# Altium schematic symbol library Schem_lib.SchLib: 221 symbols (part 2 of 2)
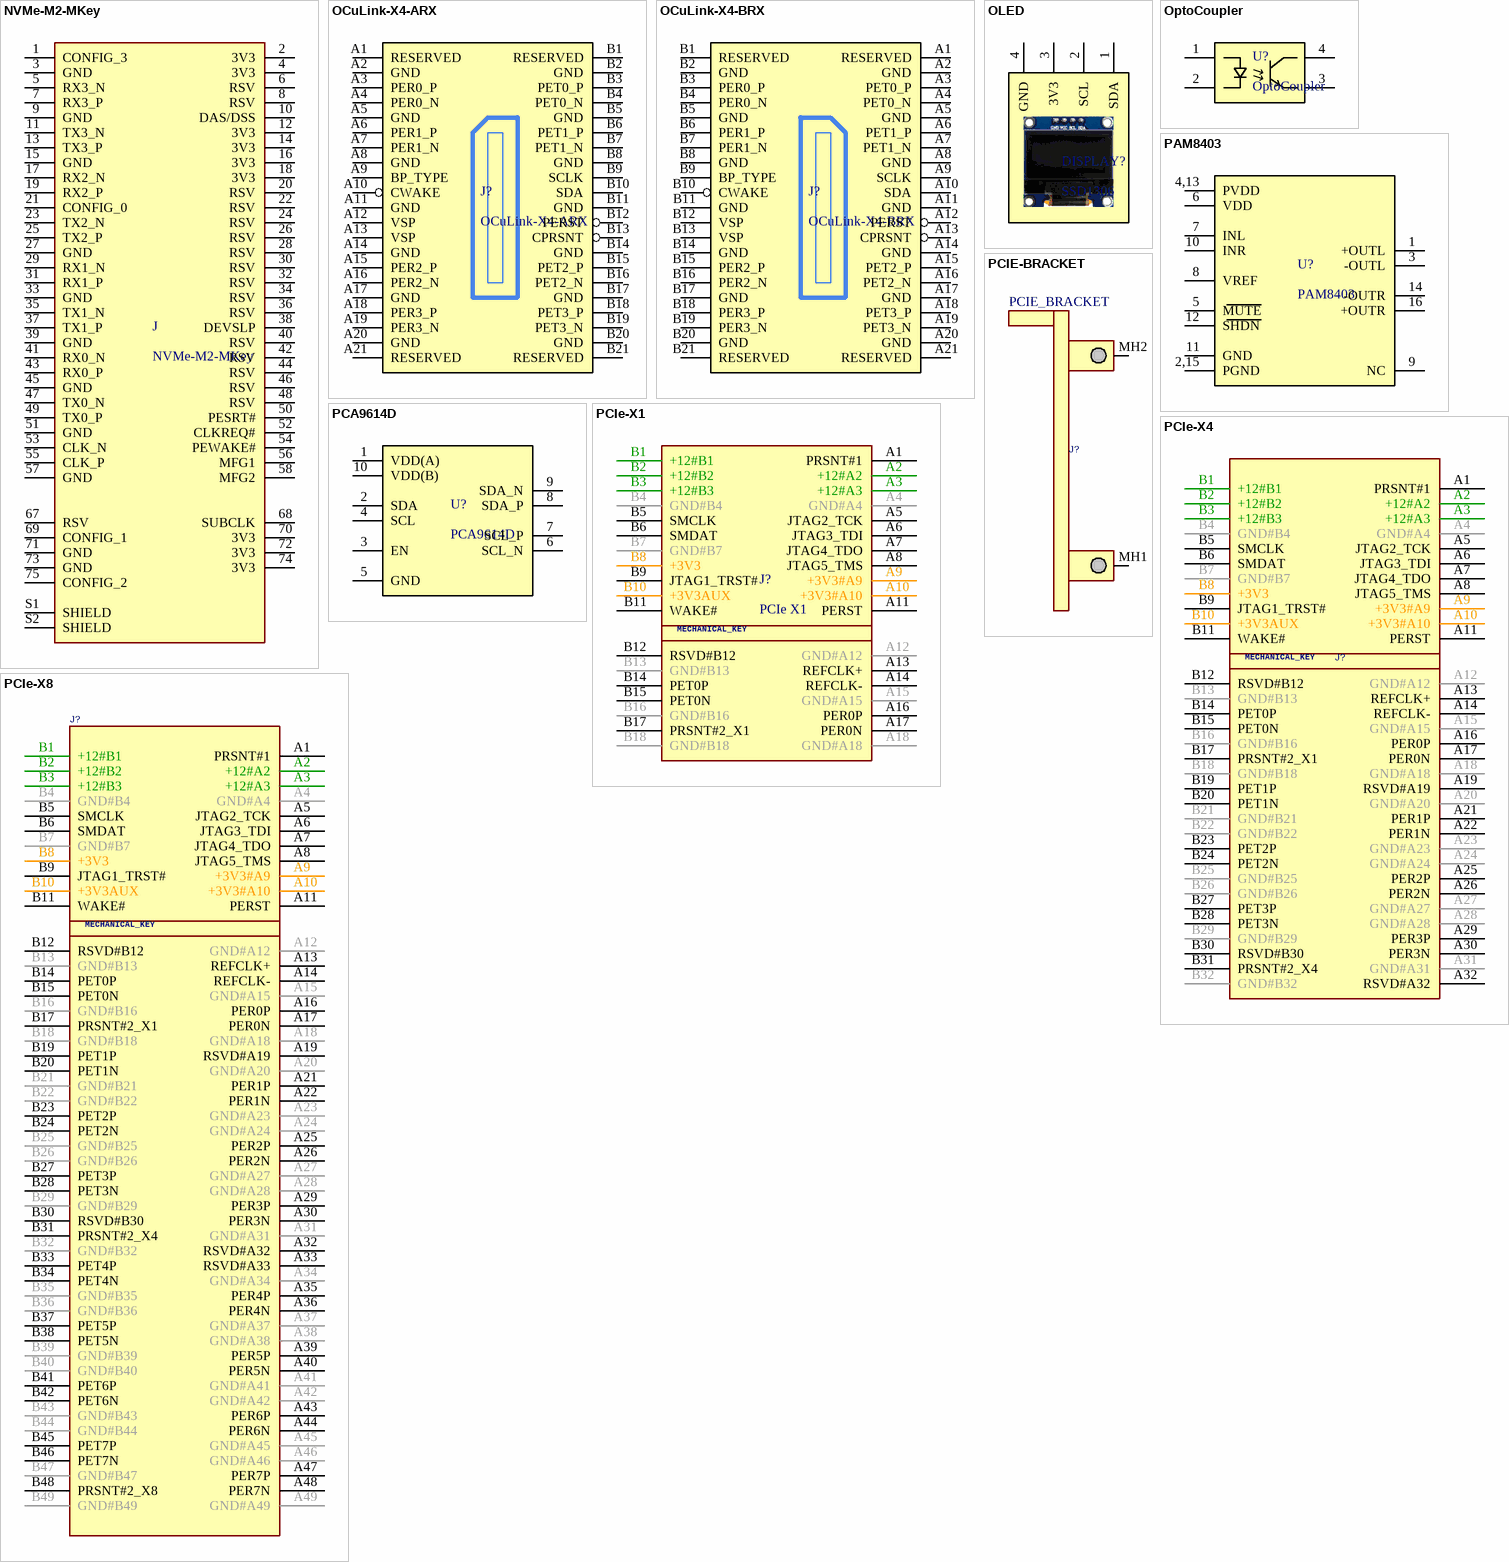
[diagram p13: symbols NVMe-M2-MKey to PCIe-X8]

## OptoCoupler
designator U?
footprint DIP4
pins: 1 (oe), 2 (oe), 3 (oe), 4 (oe)

## PAM8403
designator U?
3W Stereo Class D Amplifier
footprint SO-16
pins: 1 +OUTL, 2,15 PGND, 3 -OUTL, 4,13 PVDD, 5 MUTE, 6 VDD, 7 INL, 8 VREF, 9 NC, 10 INR, 11 GND, 12 SHDN, 14 -OUTR, 16 +OUTR

## PCA9614D
designator U?
2-Channel multipoint Fast-mode Plus differential I2C-bus
footprint MSOP-10
pins: 1 VDD(A), 2 SDA, 3 EN, 4 SCL, 5 GND, 6 SCL_N, 7 SCL_P, 8 SDA_P, 9 SDA_N, 10 VDD(B)

## PCIE-BRACKET
designator J?, comment PCIE_BRACKET
PC IO BOARD BRACKET; VALUE: PCIE_BRACKET
footprint PCIE_BRACKET (PC IO BOARD BRACKET)
footprint PCIE_BRACKET_LP (PC IO BOARD BRACKET)
pins: MH1, MH2

## PCIe-X1
designator J?, comment PCIe X1
PCI Express X1 (36pin)
footprint PCIe-X1-TH-RIGHT
footprint PCIE-X1-TH
footprint PCIE-X1-EDGE
pins: A1 PRSNT#1, A2 +12#A2, A3 +12#A3, A4 GND#A4, A5 JTAG2_TCK, A6 JTAG3_TDI, A7 JTAG4_TDO, A8 JTAG5_TMS, A9 +3V3#A9, A10 +3V3#A10, A11 PERST, A12 GND#A12, A13 REFCLK+, A14 REFCLK-, A15 GND#A15, A16 PER0P, A17 PER0N, A18 GND#A18, B1 +12#B1, B2 +12#B2, B3 +12#B3, B4 GND#B4, B5 SMCLK, B6 SMDAT, B7 GND#B7, B8 +3V3, B9 JTAG1_TRST#, B10 +3V3AUX, B11 WAKE#, B12 RSVD#B12, B13 GND#B13, B14 PET0P, B15 PET0N, B16 GND#B16, B17 PRSNT#2_X1, B18 GND#B18
text: MECHANICAL_KEY

## PCIe-X4
designator J?
PCI Express X4 (64pin)
footprint PCIE-X4-EDGE (PCIE, 4LANE, EDGE pcb connection)
footprint PCIE-X4-SMT
pins: A1 PRSNT#1, A2 +12#A2, A3 +12#A3, A4 GND#A4, A5 JTAG2_TCK, A6 JTAG3_TDI, A7 JTAG4_TDO, A8 JTAG5_TMS, A9 +3V3#A9, A10 +3V3#A10, A11 PERST, A12 GND#A12, A13 REFCLK+, A14 REFCLK-, A15 GND#A15, A16 PER0P, A17 PER0N, A18 GND#A18, A19 RSVD#A19, A20 GND#A20, A21 PER1P, A22 PER1N, A23 GND#A23, A24 GND#A24, A25 PER2P, A26 PER2N, A27 GND#A27, A28 GND#A28, A29 PER3P, A30 PER3N, A31 GND#A31, A32 RSVD#A32, B1 +12#B1, B2 +12#B2, B3 +12#B3, B4 GND#B4, B5 SMCLK, B6 SMDAT, B7 GND#B7, B8 +3V3, B9 JTAG1_TRST#, B10 +3V3AUX, B11 WAKE#, B12 RSVD#B12, B13 GND#B13, B14 PET0P, B15 PET0N, B16 GND#B16, B17 PRSNT#2_X1, B18 GND#B18, B19 PET1P, B20 PET1N, B21 GND#B21, B22 GND#B22, B23 PET2P, B24 PET2N, B25 GND#B25, B26 GND#B26, B27 PET3P, B28 PET3N, B29 GND#B29, B30 RSVD#B30, B31 PRSNT#2_X4, B32 GND#B32
text: MECHANICAL_KEY

## PCIe-X8
designator J?
PCI Express X8 (98pin)
footprint PCIE-X8-EDGE (PCIE, 8LANE, EDGE pcb connections)
footprint PCIE-X8-SMT
pins: A1 PRSNT#1, A2 +12#A2, A3 +12#A3, A4 GND#A4, A5 JTAG2_TCK, A6 JTAG3_TDI, A7 JTAG4_TDO, A8 JTAG5_TMS, A9 +3V3#A9, A10 +3V3#A10, A11 PERST, A12 GND#A12, A13 REFCLK+, A14 REFCLK-, A15 GND#A15, A16 PER0P, A17 PER0N, A18 GND#A18, A19 RSVD#A19, A20 GND#A20, A21 PER1P, A22 PER1N, A23 GND#A23, A24 GND#A24, A25 PER2P, A26 PER2N, A27 GND#A27, A28 GND#A28, A29 PER3P, A30 PER3N, A31 GND#A31, A32 RSVD#A32, A33 RSVD#A33, A34 GND#A34, A35 PER4P, A36 PER4N, A37 GND#A37, A38 GND#A38, A39 PER5P, A40 PER5N, A41 GND#A41, A42 GND#A42, A43 PER6P, A44 PER6N, A45 GND#A45, A46 GND#A46, A47 PER7P, A48 PER7N, A49 GND#A49, B1 +12#B1, B2 +12#B2, B3 +12#B3, B4 GND#B4, B5 SMCLK, B6 SMDAT, B7 GND#B7, B8 +3V3, B9 JTAG1_TRST#, B10 +3V3AUX, B11 WAKE#, B12 RSVD#B12, B13 GND#B13, B14 PET0P, B15 PET0N, B16 GND#B16, B17 PRSNT#2_X1, B18 GND#B18, B19 PET1P, B20 PET1N, B21 GND#B21, B22 GND#B22, B23 PET2P, B24 PET2N, B25 GND#B25, B26 GND#B26, B27 PET3P, B28 PET3N, B29 GND#B29, B30 RSVD#B30, B31 PRSNT#2_X4, B32 GND#B32, B33 PET4P, B34 PET4N, B35 GND#B35, B36 GND#B36, B37 PET5P, B38 PET5N, B39 GND#B39, B40 GND#B40, B41 PET6P, B42 PET6N, B43 GND#B43, B44 GND#B44, B45 PET7P, B46 PET7N, B47 GND#B47, B48 PRSNT#2_X8, B49 GND#B49
text: MECHANICAL_KEY

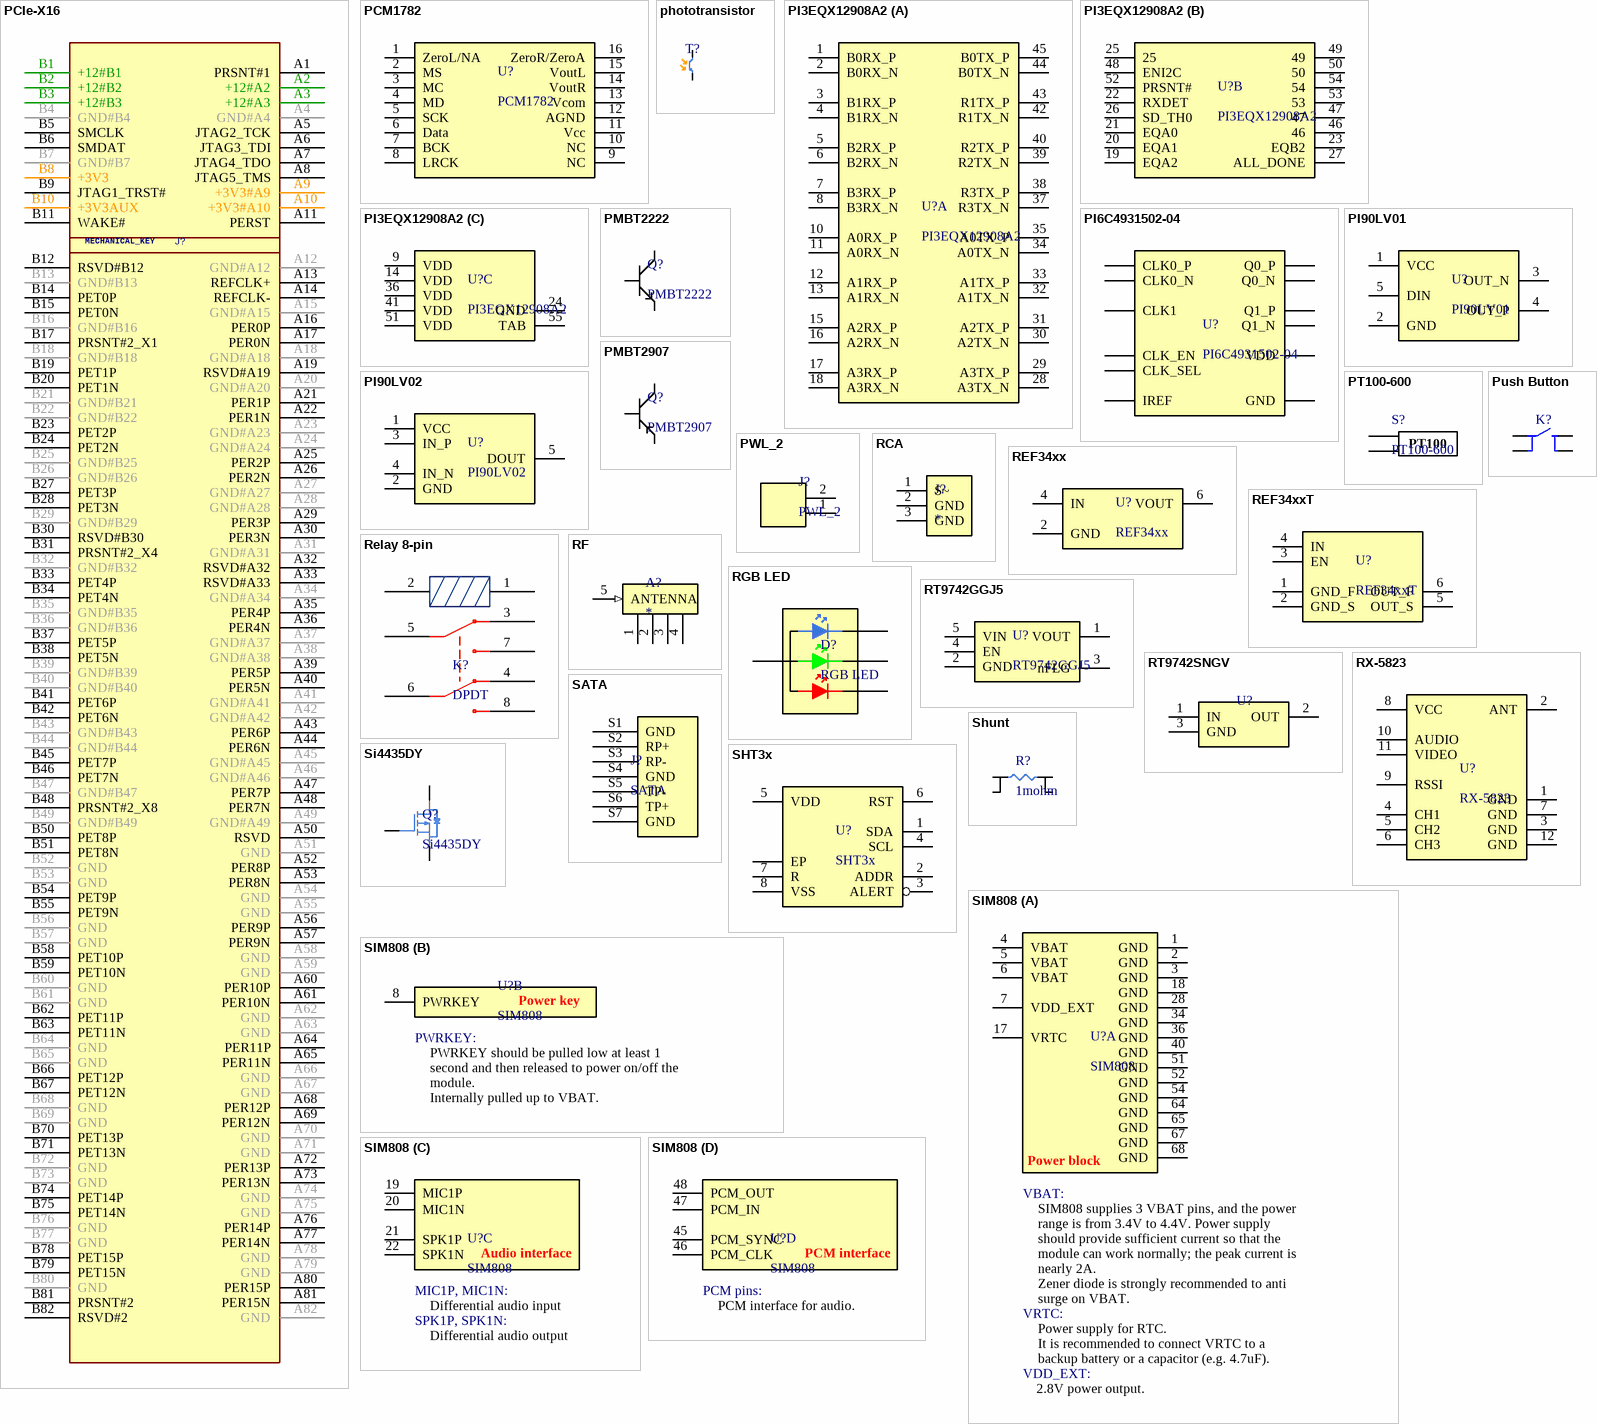
[diagram p8: symbols PCIe-X16 to SIM808]

## PCIe-X16
designator J?
PCI Express X16 (164pin)
footprint PCIE-X16-EDGE (PCIE, 16LANE, EDGE pcb connection)
footprint PCIE-X16-TH
footprint PCIE-X16-TH-RIGHT
footprint PCIE-X16-SMT
pins: A1 PRSNT#1, A2 +12#A2, A3 +12#A3, A4 GND#A4, A5 JTAG2_TCK, A6 JTAG3_TDI, A7 JTAG4_TDO, A8 JTAG5_TMS, A9 +3V3#A9, A10 +3V3#A10, A11 PERST, A12 GND#A12, A13 REFCLK+, A14 REFCLK-, A15 GND#A15, A16 PER0P, A17 PER0N, A18 GND#A18, A19 RSVD#A19, A20 GND#A20, A21 PER1P, A22 PER1N, A23 GND#A23, A24 GND#A24, A25 PER2P, A26 PER2N, A27 GND#A27, A28 GND#A28, A29 PER3P, A30 PER3N, A31 GND#A31, A32 RSVD#A32, A33 RSVD#A33, A34 GND#A34, A35 PER4P, A36 PER4N, A37 GND#A37, A38 GND#A38, A39 PER5P, A40 PER5N, A41 GND#A41, A42 GND#A42, A43 PER6P, A44 PER6N, A45 GND#A45, A46 GND#A46, A47 PER7P, A48 PER7N, A49 GND#A49, A50 RSVD, A51 GND, A52 PER8P, A53 PER8N, A54 GND, A55 GND, A56 PER9P, A57 PER9N, A58 GND, A59 GND, A60 PER10P, A61 PER10N, A62 GND, A63 GND, A64 PER11P, A65 PER11N, A66 GND, A67 GND, A68 PER12P, A69 PER12N, A70 GND, A71 GND, A72 PER13P, A73 PER13N, A74 GND, A75 GND, A76 PER14P, A77 PER14N, A78 GND, A79 GND, A80 PER15P, A81 PER15N, A82 GND, B1 +12#B1, B2 +12#B2, B3 +12#B3, B4 GND#B4, B5 SMCLK, B6 SMDAT, B7 GND#B7, B8 +3V3, B9 JTAG1_TRST#, B10 +3V3AUX, B11 WAKE#, B12 RSVD#B12, B13 GND#B13, B14 PET0P, B15 PET0N, B16 GND#B16, B17 PRSNT#2_X1, B18 GND#B18, B19 PET1P, B20 PET1N, B21 GND#B21, B22 GND#B22, B23 PET2P, B24 PET2N, B25 GND#B25, B26 GND#B26, B27 PET3P, B28 PET3N, B29 GND#B29, B30 RSVD#B30, B31 PRSNT#2_X4, B32 GND#B32, B33 PET4P, B34 PET4N, B35 GND#B35, B36 GND#B36, B37 PET5P, B38 PET5N, B39 GND#B39, B40 GND#B40, B41 PET6P, B42 PET6N, B43 GND#B43, B44 GND#B44, B45 PET7P, B46 PET7N, B47 GND#B47, B48 PRSNT#2_X8, B49 GND#B49, B50 PET8P, B51 PET8N, B52 GND, B53 GND, B54 PET9P, B55 PET9N, B56 GND, B57 GND, B58 PET10P, B59 PET10N, B60 GND, B61 GND, B62 PET11P, B63 PET11N, B64 GND, B65 GND, B66 PET12P, B67 PET12N, B68 GND, B69 GND, B70 PET13P, B71 PET13N, B72 GND, B73 GND, B74 PET14P, B75 PET14N, B76 GND, B77 GND, B78 PET15P, B79 PET15N, B80 GND, B81 PRSNT#2, B82 RSVD#2
text: MECHANICAL_KEY

## PCM1782
designator U?
106dB SNR Stereo DAC (S/W Control)
footprint SSOP-16
pins: 1 ZeroL/NA, 2 MS, 3 MC, 4 MD, 5 SCK, 6 Data, 7 BCK, 8 LRCK, 9 NC, 10 NC, 11 Vcc, 12 AGND, 13 Vcom, 14 VoutR, 15 VoutL, 16 ZeroR/ZeroA

## phototransistor
designator T?
footprint LED0603W
pins: 1 C, 2 E

## PI3EQX12908A2
designator U?
8-Channel PCIe Gen3, 10GbE, SATA3, ReDriver with Linear Equalization
footprint WQFN-54
part A pins: 1 B0RX_P, 2 B0RX_N, 3 B1RX_P, 4 B1RX_N, 5 B2RX_P, 6 B2RX_N, 7 B3RX_P, 8 B3RX_N, 10 A0RX_P, 11 A0RX_N, 12 A1RX_P, 13 A1RX_N, 15 A2RX_P, 16 A2RX_N, 17 A3RX_P, 18 A3RX_N, 28 A3TX_N, 29 A3TX_P, 30 A2TX_N, 31 A2TX_P, 32 A1TX_N, 33 A1TX_P, 34 A0TX_N, 35 A0TX_P, 37 R3TX_N, 38 R3TX_P, 39 R2TX_N, 40 R2TX_P, 42 R1TX_N, 43 R1TX_P, 44 B0TX_N, 45 B0TX_P
part B pins: 19 EQA2, 20 EQA1, 21 EQA0, 22 RXDET, 23 EQB2, 25, 26 SD_TH0, 27 ALL_DONE, 46, 47, 48 ENI2C, 49, 50, 52 PRSNT#, 53, 54
part C pins: 9 VDD, 14 VDD, 24 GND, 36 VDD, 41 VDD, 51 VDD, 55 TAB

## PI6C4931502-04
designator U?
Clock Buffer 1:2 HCSL Buffer
footprint TSSOP-16
pins: 1 CLK_EN, 2 CLK_SEL, 3 CLK0_P, 4 CLK0_N, 5 CLK1, 8 IREF, 9,10,15 VDD, 11 Q1_N, 12 Q1_P, 13 Q0_N, 14 Q0_P, 16 GND

## PI90LV01
designator U?
LVDS High-Speed Differential Line Driver
footprint SOT23-5L
pins: 1 VCC, 2 GND, 3 OUT_N, 4 OUT_P, 5 DIN

## PI90LV02
designator U?
LVDS High-Speed Differential Line Driver
footprint SOT23-5L
pins: 1 VCC, 2 GND, 3 IN_P, 4 IN_N, 5 DOUT

## PMBT2222
designator Q?
NPN Bipolar Transistors - BJT
footprint SOT23
pins: 1 B, 2 E, 3 C

## PMBT2907
designator Q?
PNP Bipolar Transistors - BJT
footprint SOT23
pins: 1 B, 2 E, 3 C

## PT100-600
designator S?
PT100
footprint PT100-600
pins: 1, 2

## Push Button
designator K?  (value not drawn)
Tactile switch
footprint TATCTILE-12x12x15
footprint TATCTILE-12x12x3.5
pins: 1, 2, 3, 4

## PWL_2
designator J?
footprint PWL_2 (Connector; Header; 2 Position)
pins: 1, 2

## RCA
designator J?
footprint RCA
pins: 1 S~, 2 GND, 3 GND (oe)

## REF34xx
designator U?
Voltage References low-drift, low-power
footprint SOT23-6L
pins: 2 GND, 4 IN, 6 VOUT

## REF34xxT
designator U?
Voltage References low-drift, low-power
footprint SOT23-6L
pins: 1 GND_F, 2 GND_S, 3 EN, 4 IN, 5 OUT_S, 6 OUT_F

## Relay 8-pin
designator K?, comment DPDT
footprint Relay 8-pin DPDT
pins: 1 (oe), 2 (oe), 3 (oe), 4 (oe), 5 (oe), 6 (oe), 7 (oe), 8 (oe)

## RF
designator A?
footprint SMA
pins: 1 GND, 2 GND, 3 GND, 4 GND, 5 ANTENNA (in)

## RGB LED
designator D?
footprint 1204-RGB
footprint 1204-RGB-Right
pins: 1 G, 2 R, 3 B, 4 A

## RT9742GGJ5
designator U?
IC PWR SWTCH N-CHAN
footprint SOT23-5L
pins: 1 VOUT, 2 GND, 3 nFLG, 4 EN, 5 VIN

## RT9742SNGV
designator U?  (value not drawn)
IC PWR SWITCH N-CHAN
footprint SOT23
pins: 1 IN, 2 OUT, 3 GND

## RX-5823
designator U?
5.8GHz AV Reciever
footprint RX-5823
pins: 1 GND (oe), 2 ANT (oe), 3 GND (oe), 4 CH1 (oe), 5 CH2 (oe), 6 CH3 (oe), 7 GND (oe), 8 VCC (oe), 9 RSSI (oe), 10 AUDIO (oe), 11 VIDEO (oe), 12 GND (oe)

## SATA
designator J?
footprint SATA
pins: S1 GND, S2 RP+, S3 RP-, S4 GND, S5 TP-, S6 TP+, S7 GND

## SHT3x
designator U?
Board Mount Humidity Sensors RH Accuracy +/- 2% Digital
footprint SHT3x-DIS
pins: 1 SDA, 2 ADDR, 3 ALERT, 4 SCL, 5 VDD, 6 RST, 7 R, 8 VSS, EP

## Shunt
designator R?, comment 1mohm
VALUE: 1mohm
footprint 2512; pin to pad 3>2 4>1
footprint 0508R; pin to pad 3>2 4>1
footprint 3637R
pins: 1, 2, 3, 4

## Si4435DY
designator Q?
MOSFT P-Channel 30V 8A 35mOhm
footprint SOIC-8
pins: 1,2,3 S, 4 G, 5,6,7,8 D

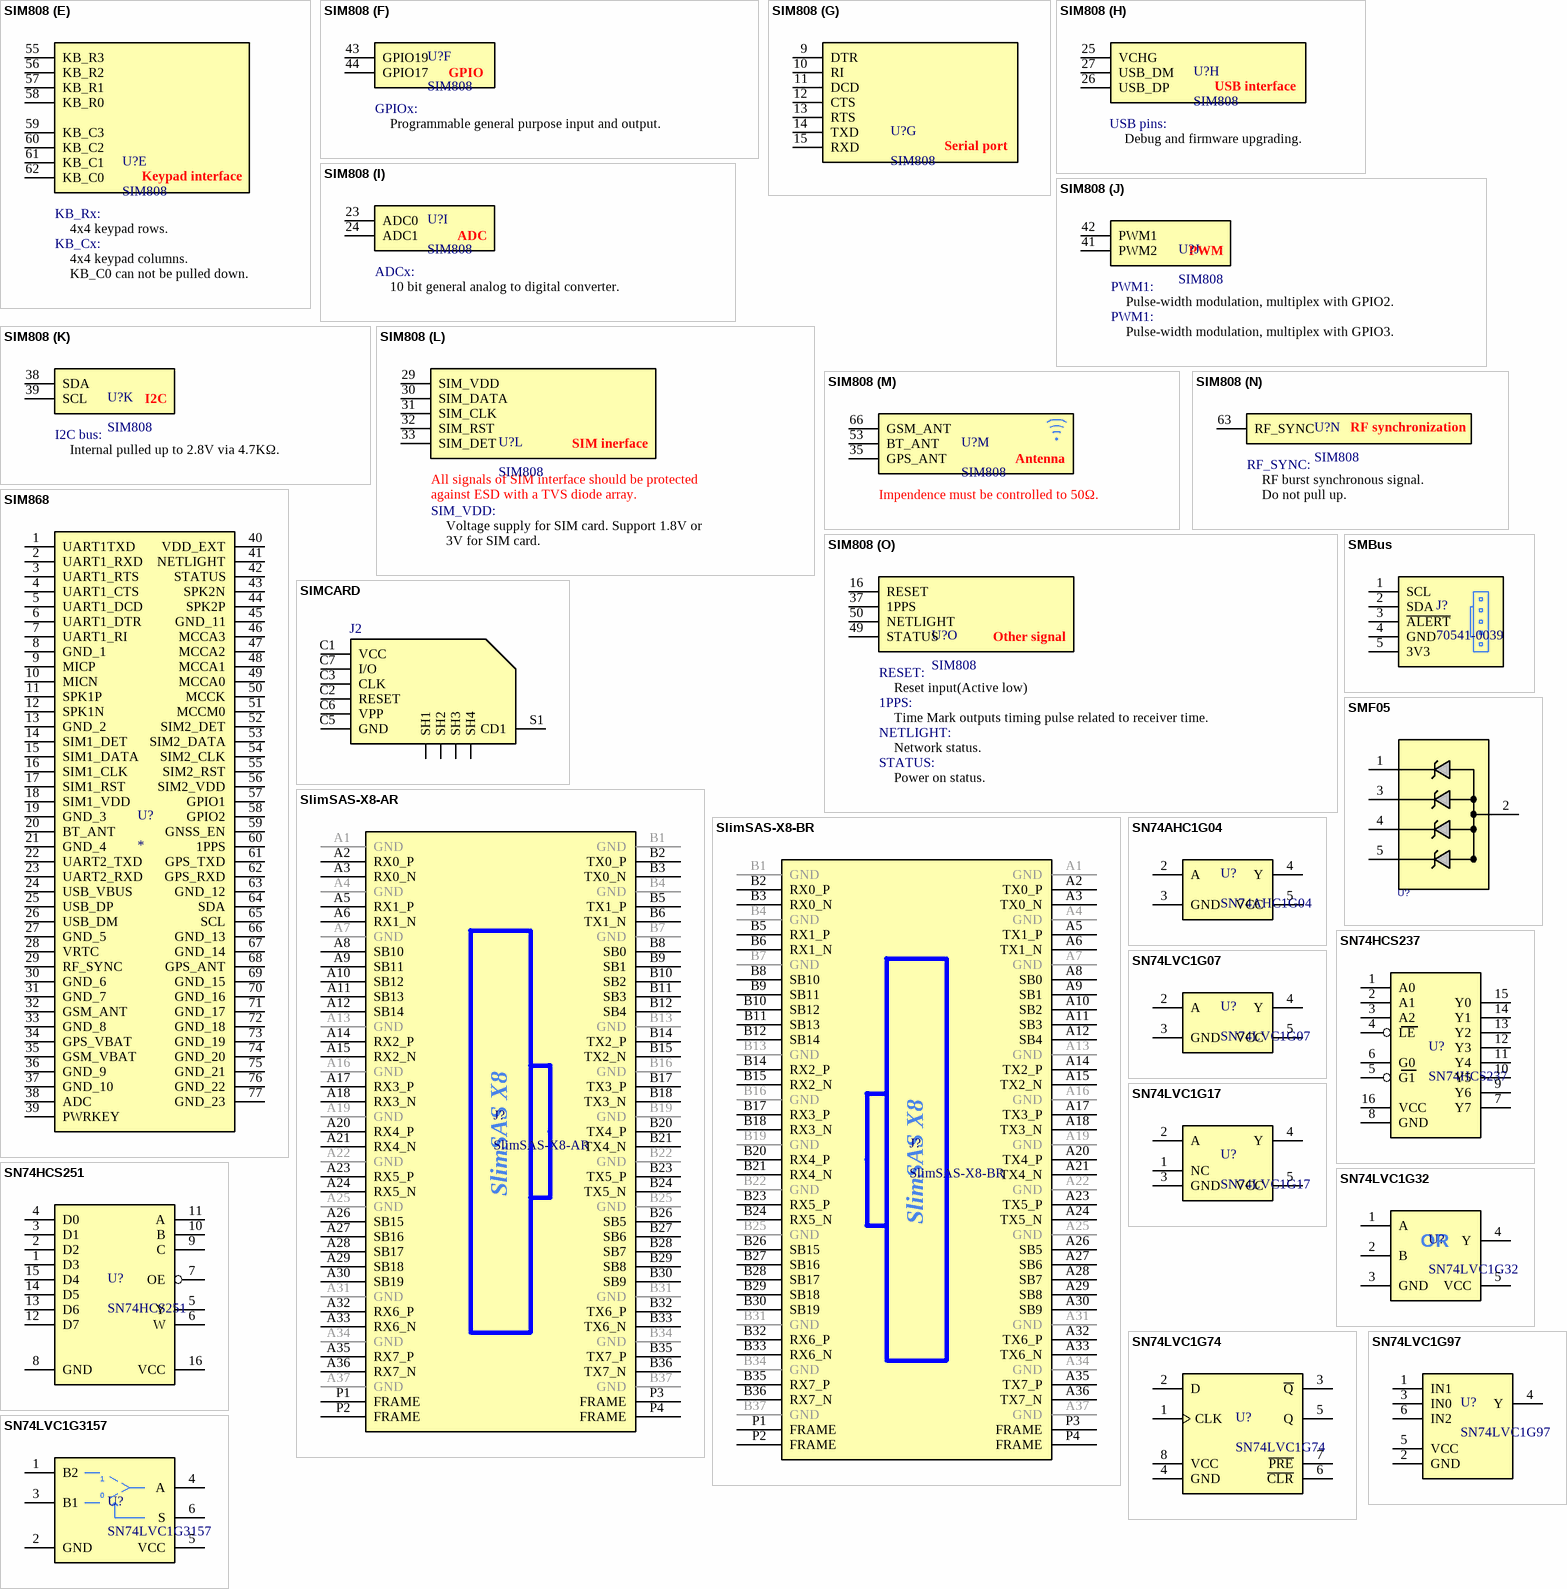
[diagram p9: symbols SIM808 to SN74LVC1G3157]

## SIM808
designator U?
SIM808 Modem
footprint SIM808
part A pins: 1 GND, 2 GND, 3 GND, 4 VBAT, 5 VBAT, 6 VBAT, 7 VDD_EXT, 17 VRTC, 18 GND, 28 GND, 34 GND, 36 GND, 40 GND, 51 GND, 52 GND, 54 GND, 64 GND, 65 GND, 67 GND, 68 GND
part B pins: 8 PWRKEY
part C pins: 19 MIC1P, 20 MIC1N, 21 SPK1P, 22 SPK1N
part D pins: 45 PCM_SYNC, 46 PCM_CLK, 47 PCM_IN, 48 PCM_OUT
part E pins: 55 KB_R3, 56 KB_R2, 57 KB_R1, 58 KB_R0, 59 KB_C3, 60 KB_C2, 61 KB_C1, 62 KB_C0
part F pins: 43 GPIO19, 44 GPIO17
part G pins: 9 DTR, 10 RI, 11 DCD, 12 CTS, 13 RTS, 14 TXD, 15 RXD
part H pins: 25 VCHG, 26 USB_DP, 27 USB_DM
part I pins: 23 ADC0, 24 ADC1
part J pins: 41 PWM2, 42 PWM1
part K pins: 38 SDA, 39 SCL
part L pins: 29 SIM_VDD, 30 SIM_DATA, 31 SIM_CLK, 32 SIM_RST, 33 SIM_DET
part M pins: 35 GPS_ANT, 53 BT_ANT, 66 GSM_ANT
part N pins: 63 RF_SYNC
part O pins: 16 RESET, 37 1PPS, 49 STATUS, 50 NETLIGHT
part A text: Power block; VBAT:; SIM808 supplies 3 VBAT pins, and the power; range is from 3.4V to 4.4V. Power supply; should provide sufficient current so that the; module can work normally; the peak current is; nearly 2A.; Zener diode is strongly recommended to anti; surge on VBAT.; VRTC:; Power supply for RTC.; It is recommended to connect VRTC to a; backup battery or a capacitor (e.g. 4.7uF).; VDD_EXT:; 2.8V power output.
part B text: Power key; PWRKEY:; PWRKEY should be pulled low at least 1; second and then released to power on/off the; module.; Internally pulled up to VBAT.
part C text: Audio interface; MIC1P, MIC1N:; Differential audio input; SPK1P, SPK1N:; Differential audio output
part D text: PCM interface; PCM pins:; PCM interface for audio.
part E text: Keypad interface; KB_Rx:; 4x4 keypad rows.; KB_Cx:; 4x4 keypad columns.; KB_C0 can not be pulled down.
part F text: GPIO; GPIOx:; Programmable general purpose input and output.
part G text: Serial port
part H text: USB interface; USB pins:; Debug and firmware upgrading.
part I text: ADC; ADCx:; 10 bit general analog to digital converter.
part J text: PWM; PWM1:; Pulse-width modulation, multiplex with GPIO2.; Pulse-width modulation, multiplex with GPIO3.
part K text: I2C; I2C bus:; Internal pulled up to 2.8V via 4.7KΩ.
part L text: SIM inerface; All signals of SIM interface should be protected; against ESD with a TVS diode array.; SIM_VDD:; Voltage supply for SIM card. Support 1.8V or; 3V for SIM card.
part M text: Antenna; Impendence must be controlled to 50Ω.
part N text: RF synchronization; RF_SYNC:; RF burst synchronous signal.; Do not pull up.
part O text: Other signal; RESET:; Reset input(Active low); 1PPS:; Time Mark outputs timing pulse related to receiver time.; NETLIGHT:; Network status.; STATUS:; Power on status.

## SIM868
designator U?
footprint SIM868
pins: 1 UART1TXD, 2 UART1_RXD, 3 UART1_RTS, 4 UART1_CTS, 5 UART1_DCD, 6 UART1_DTR, 7 UART1_RI, 8 GND_1, 9 MICP, 10 MICN, 11 SPK1P, 12 SPK1N, 13 GND_2, 14 SIM1_DET, 15 SIM1_DATA, 16 SIM1_CLK, 17 SIM1_RST, 18 SIM1_VDD, 19 GND_3, 20 BT_ANT, 21 GND_4, 22 UART2_TXD, 23 UART2_RXD, 24 USB_VBUS, 25 USB_DP, 26 USB_DM, 27 GND_5, 28 VRTC, 29 RF_SYNC, 30 GND_6, 31 GND_7, 32 GSM_ANT, 33 GND_8, 34 GPS_VBAT, 35 GSM_VBAT, 36 GND_9, 37 GND_10, 38 ADC, 39 PWRKEY, 40 VDD_EXT, 41 NETLIGHT, 42 STATUS, 43 SPK2N, 44 SPK2P, 45 GND_11, 46 MCCA3, 47 MCCA2, 48 MCCA1, 49 MCCA0, 50 MCCK, 51 MCCM0, 52 SIM2_DET, 53 SIM2_DATA, 54 SIM2_CLK, 55 SIM2_RST, 56 SIM2_VDD, 57 GPIO1, 58 GPIO2, 59 GNSS_EN, 60 1PPS, 61 GPS_TXD, 62 GPS_RXD, 63 GND_12, 64 SDA, 65 SCL, 66 GND_13, 67 GND_14, 68 GPS_ANT, 69 GND_15, 70 GND_16, 71 GND_17, 72 GND_18, 73 GND_19, 74 GND_20, 75 GND_21, 76 GND_22, 77 GND_23

## SIMCARD
designator J2  (value not drawn)
SIMCARD SOCKET
footprint SIMCARD_HOLDER
pins: C1 VCC, C2 RESET, C3 CLK, C5 GND, C6 VPP, C7 I/O, S1 CD1, SH1, SH2, SH3, SH4

## SlimSAS-X8-AR
designator J?
SlimSAS X8 A:RX B:TX
footprint SLIMSAS-VT-X8
footprint SLIMSAS-RA-X8
pins: A1 GND, A2 RX0_P, A3 RX0_N, A4 GND, A5 RX1_P, A6 RX1_N, A7 GND, A8 SB10 "Core Logic", A9 SB11 "Core Logic", A10 SB12 "Core Logic", A11 SB13 "Core Logic", A12 SB14 "Core Logic", A13 GND, A14 RX2_P, A15 RX2_N, A16 GND, A17 RX3_P, A18 RX3_N, A19 GND, A20 RX4_P, A21 RX4_N, A22 GND, A23 RX5_P, A24 RX5_N, A25 GND, A26 SB15 "Core Logic", A27 SB16 "Core Logic", A28 SB17 "Core Logic", A29 SB18 "Core Logic", A30 SB19 "Core Logic", A31 GND, A32 RX6_P, A33 RX6_N, A34 GND, A35 RX7_P, A36 RX7_N, A37 GND, B1 GND, B2 TX0_P, B3 TX0_N, B4 GND, B5 TX1_P, B6 TX1_N, B7 GND, B8 SB0 "Core Logic", B9 SB1 "Core Logic", B10 SB2 "Core Logic", B11 SB3 "Core Logic", B12 SB4 "Core Logic", B13 GND, B14 TX2_P, B15 TX2_N, B16 GND, B17 TX3_P, B18 TX3_N, B19 GND, B20 TX4_P, B21 TX4_N, B22 GND, B23 TX5_P, B24 TX5_N, B25 GND, B26 SB5 "Core Logic", B27 SB6 "Core Logic", B28 SB7 "Core Logic", B29 SB8 "Core Logic", B30 SB9 "Core Logic", B31 GND, B32 TX6_P, B33 TX6_N, B34 GND, B35 TX7_P, B36 TX7_N, B37 GND, P1 FRAME, P2 FRAME, P3 FRAME, P4 FRAME
text: SlimSAS X8

## SlimSAS-X8-BR
designator J?
SlimSAS X8 A:TX B:RX
footprint SLIMSAS-VT-X8
footprint SLIMSAS-RA-X8
pins: A1 GND, A2 TX0_P, A3 TX0_N, A4 GND, A5 TX1_P, A6 TX1_N, A7 GND, A8 SB0 "Core Logic", A9 SB1 "Core Logic", A10 SB2 "Core Logic", A11 SB3 "Core Logic", A12 SB4 "Core Logic", A13 GND, A14 TX2_P, A15 TX2_N, A16 GND, A17 TX3_P, A18 TX3_N, A19 GND, A20 TX4_P, A21 TX4_N, A22 GND, A23 TX5_P, A24 TX5_N, A25 GND, A26 SB5 "Core Logic", A27 SB6 "Core Logic", A28 SB7 "Core Logic", A29 SB8 "Core Logic", A30 SB9 "Core Logic", A31 GND, A32 TX6_P, A33 TX6_N, A34 GND, A35 TX7_P, A36 TX7_N, A37 GND, B1 GND, B2 RX0_P, B3 RX0_N, B4 GND, B5 RX1_P, B6 RX1_N, B7 GND, B8 SB10 "Core Logic", B9 SB11 "Core Logic", B10 SB12 "Core Logic", B11 SB13 "Core Logic", B12 SB14 "Core Logic", B13 GND, B14 RX2_P, B15 RX2_N, B16 GND, B17 RX3_P, B18 RX3_N, B19 GND, B20 RX4_P, B21 RX4_N, B22 GND, B23 RX5_P, B24 RX5_N, B25 GND, B26 SB15 "Core Logic", B27 SB16 "Core Logic", B28 SB17 "Core Logic", B29 SB18 "Core Logic", B30 SB19 "Core Logic", B31 GND, B32 RX6_P, B33 RX6_N, B34 GND, B35 RX7_P, B36 RX7_N, B37 GND, P1 FRAME, P2 FRAME, P3 FRAME, P4 FRAME
text: SlimSAS X8

## SMBus
designator J?, comment 70541-0039
Server SMBus header
footprint SMBUS-HEADER (70541-0039)
pins: 1 SCL "Core Logic", 2 SDA "Core Logic", 3 ~{ALERT} "Core Logic", 4 GND "Core Logic", 5 3V3 "Core Logic"

## SMF05
designator U?, comment TVS_SMF05  (value not drawn)
TVS, ESD PROTECT, 4CH, 5VRWM, 15KV; MANF_P#: SMF05; MANF: Semtech; PARAM: 5VRWM, 15KV; VALUE: TVS_SMF05
footprint SOT23-5L
pins: 1, 2, 3, 4, 5

## SN74AHC1G04
designator U?
Single input NOT gate
footprint SOT23-5L
pins: 2 A, 3 GND, 4 Y, 5 VCC

## SN74HCS237
designator U?
High speed CMOS logic 3-to-8 line decoder demultiplexer with address latches
footprint TSSOP-16
footprint SOIC-16
pins: 1 A0, 2 A1, 3 A2, 4 LE, 5 G1, 6 G0, 7 Y7, 8 GND, 9 Y6, 10 Y5, 11 Y4, 12 Y3, 13 Y2, 14 Y1, 15 Y0, 16 VCC

## SN74HCS251
designator U?
8-to-1 Multiplexers with 3-State Outputs and Schmitt Trigger Inputs
footprint SOIC-16
footprint TSSOP-16
pins: 1 D3, 2 D2, 3 D1, 4 D0, 5 Y, 6 W, 7 OE, 8 GND, 9 C, 10 B, 11 A, 12 D7, 13 D6, 14 D5, 15 D4, 16 VCC

## SN74LVC1G07
designator U?
Single 1.65-V to 5.5-V buffer with open-drain outputs
footprint SOT23-5L
pins: 2 A, 3 GND, 4 Y, 5 VCC

## SN74LVC1G17
designator U?
Single schmitt trigger buffer
footprint SOT23-5L
pins: 1 NC, 2 A, 3 GND, 4 Y, 5 VCC

## SN74LVC1G32
designator U?
1-ch, 2-input 1.65-V to 5.5-V 32-mA drive strength OR gate
footprint SOT23-5L
pins: 1 A, 2 B, 3 GND, 4 Y, 5 VCC
text: OR

## SN74LVC1G74
designator U?
Single Positive-Edge-Triggered D-Type Flip-Flop With Clear and Preset
footprint UQFN-8
footprint X2SON-8
footprint SSOP-8
footprint VSSOP-8
pins: 1 CLK "Core Logic", 2 D "Core Logic", 3 ~{Q} "Core Logic", 4 GND "Core Logic", 5 Q "Core Logic", 6 ~{CLR} "Core Logic", 7 ~{PRE} "Core Logic", 8 VCC "Core Logic"

## SN74LVC1G97
designator U?
Configurable Multiple Function Gates
footprint SOT23-6L
pins: 1 IN1, 2 GND, 3 IN0, 4 Y, 5 VCC, 6 IN2

## SN74LVC1G3157
designator U?
5-V, 2:1 (SPDT), 1-channel general-purpose analog switch
footprint SOT23-6L
pins: 1 B2, 2 GND, 3 B1, 4 A, 5 VCC, 6 S
text: 0

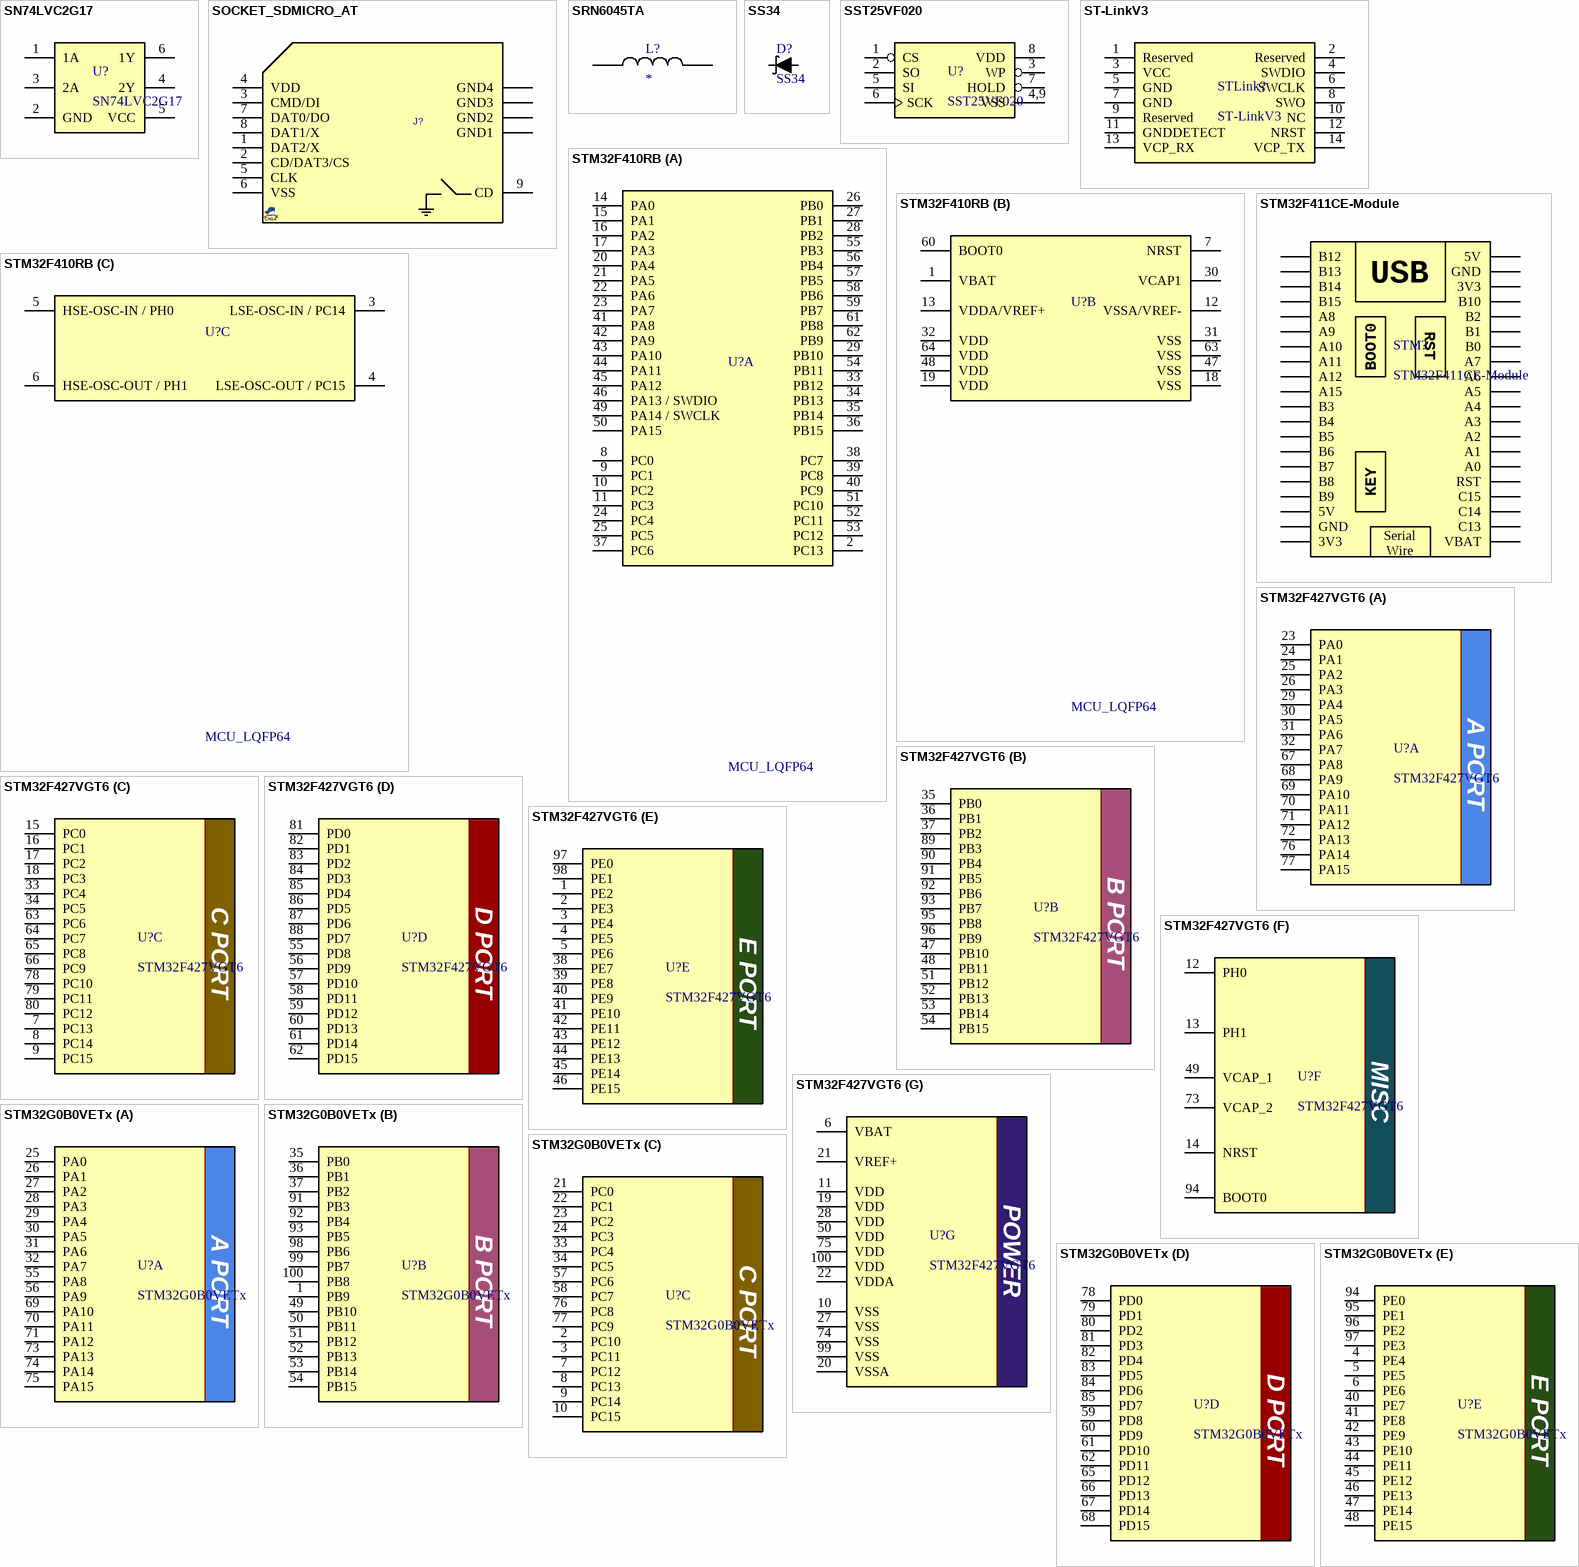
[diagram p10: symbols SN74LVC2G17 to STM32G0B0VETx]

## SN74LVC2G17
designator U?
2-ch, 1.65-V to 5.5-V buffers with Schmitt-Trigger inputs
footprint SOT23-6L
footprint SOT-323
pins: 1 1A, 2 GND, 3 2A, 4 2Y, 5 VCC, 6 1Y

## SOCKET_SDMICRO_AT
designator J?
SD MICRO exist in Iran, Attend 112J-TDAR-R01; PARAM: push-push; MANF: Attend; MANF_P#: 112J-TDAR-R01
footprint SDMICRO_AT (SDMICRO exist on Iran, Attend 112J-TDAR-R01 push-push)
pins: 1 DAT2/X, 2 CD/DAT3/CS, 3 CMD/DI, 4 VDD, 5 CLK, 6 VSS, 7 DAT0/DO, 8 DAT1/X, 9 CD, SH1 GND1, SH2 GND2, SH3 GND3, SH4 GND4

## SRN6045TA
designator L?
Inductor
footprint SRN6045TA
pins: 1, 2

## SS34
designator D?
Schottky Diode
footprint DO-214AC
pins: A (oe), K (oe)

## SST25VF020
designator U?
2Mbit SPI Serial Flash
footprint VSON-8pin; pin to pad 4,9>4+9
pins: 1 CS "Core Logic", 2 SO "Core Logic", 3 WP "Core Logic", 4,9 VSS "Core Logic", 5 SI "Core Logic", 6 SCK "Core Logic", 7 HOLD "Core Logic", 8 VDD "Core Logic"

## ST-LinkV3
designator STLink?
ST-LinkV3 STDC14 IDC
footprint FTSH-107-01-L-DV-K
pins: 1 Reserved, 2 Reserved, 3 VCC, 4 SWDIO, 5 GND, 6 SWCLK, 7 GND, 8 SWO, 9 Reserved, 10 NC, 11 GNDDETECT, 12 NRST, 13 VCP_RX, 14 VCP_TX

## STM32F410RB
designator U?, comment MCU_LQFP64
STM32 Dynamic Efficiency MCU with BAM, High-performance and DSP with FPU, Arm Cortex-M4 MCU with 128 Kbytes of Flash memory, 100 MHz CPU, Art Accelerator
footprint LQFP64
part A pins: 2 PC13, 8 PC0, 9 PC1, 10 PC2, 11 PC3, 14 PA0, 15 PA1, 16 PA2, 17 PA3, 20 PA4, 21 PA5, 22 PA6, 23 PA7, 24 PC4, 25 PC5, 26 PB0, 27 PB1, 28 PB2, 29 PB10, 33 PB12, 34 PB13, 35 PB14, 36 PB15, 37 PC6, 38 PC7, 39 PC8, 40 PC9, 41 PA8, 42 PA9, 43 PA10, 44 PA11, 45 PA12, 46 PA13 / SWDIO, 49 PA14 / SWCLK, 50 PA15, 51 PC10, 52 PC11, 53 PC12, 54 PB11, 55 PB3, 56 PB4, 57 PB5, 58 PB6, 59 PB7, 61 PB8, 62 PB9
part B pins: 1 VBAT, 7 NRST, 12 VSSA/VREF-, 13 VDDA/VREF+, 18 VSS, 19 VDD, 30 VCAP1, 31 VSS, 32 VDD, 47 VSS, 48 VDD, 60 BOOT0, 63 VSS, 64 VDD
part C pins: 3 LSE-OSC-IN / PC14, 4 LSE-OSC-OUT / PC15, 5 HSE-OSC-IN / PH0, 6 HSE-OSC-OUT / PH1

## STM32F411CE-Module
designator STM?
STM32F411CE Black Module
footprint STM32F411CE-MODULE
pins: 1 5V, 2 GND, 3 3V3, 4 B10, 5 B2, 6 B1, 7 B0, 8 A7, 9 A6, 10 A5, 11 A4, 12 A3, 13 A2, 14 A1, 15 A0, 16 RST, 17 C15, 18 C14, 19 C13, 20 VBAT, 21 3V3, 22 GND, 23 5V, 24 B9, 25 B8, 26 B7, 27 B6, 28 B5, 29 B4, 30 B3, 31 A15, 32 A12, 33 A11, 34 A10, 35 A9, 36 A8, 37 B15, 38 B14, 39 B13, 40 B12
text: USB; BOOT0; KEY; Serial / Wire

## STM32F427VGT6
designator U?
High-performance advanced line, Arm Cortex-M4 core with DSP and FPU, 1 Mbyte of Flash memory, 180 MHz CPU, ART Accelerator, Chrom-ART Accelerator, FSMC
footprint LQFP100
part A pins: 23 PA0 "Core Logic", 24 PA1 "Core Logic", 25 PA2 "Core Logic", 26 PA3 "Core Logic", 29 PA4 "Core Logic", 30 PA5 "Core Logic", 31 PA6 "Core Logic", 32 PA7 "Core Logic", 67 PA8 "Core Logic", 68 PA9 "Core Logic", 69 PA10 "Core Logic", 70 PA11 "Core Logic", 71 PA12 "Core Logic", 72 PA13 "Core Logic", 76 PA14 "Core Logic", 77 PA15 "Core Logic"
part B pins: 35 PB0 "Core Logic", 36 PB1 "Core Logic", 37 PB2 "Core Logic", 47 PB10 "Core Logic", 48 PB11 "Core Logic", 51 PB12 "Core Logic", 52 PB13 "Core Logic", 53 PB14 "Core Logic", 54 PB15 "Core Logic", 89 PB3 "Core Logic", 90 PB4 "Core Logic", 91 PB5 "Core Logic", 92 PB6 "Core Logic", 93 PB7 "Core Logic", 95 PB8 "Core Logic", 96 PB9 "Core Logic"
part C pins: 7 PC13 "Core Logic", 8 PC14 "Core Logic", 9 PC15 "Core Logic", 15 PC0 "Core Logic", 16 PC1 "Core Logic", 17 PC2 "Core Logic", 18 PC3 "Core Logic", 33 PC4 "Core Logic", 34 PC5 "Core Logic", 63 PC6 "Core Logic", 64 PC7 "Core Logic", 65 PC8 "Core Logic", 66 PC9 "Core Logic", 78 PC10 "Core Logic", 79 PC11 "Core Logic", 80 PC12 "Core Logic"
part D pins: 55 PD8 "Core Logic", 56 PD9 "Core Logic", 57 PD10 "Core Logic", 58 PD11 "Core Logic", 59 PD12 "Core Logic", 60 PD13 "Core Logic", 61 PD14 "Core Logic", 62 PD15 "Core Logic", 81 PD0 "Core Logic", 82 PD1 "Core Logic", 83 PD2 "Core Logic", 84 PD3 "Core Logic", 85 PD4 "Core Logic", 86 PD5 "Core Logic", 87 PD6 "Core Logic", 88 PD7 "Core Logic"
part E pins: 1 PE2 "Core Logic", 2 PE3 "Core Logic", 3 PE4 "Core Logic", 4 PE5 "Core Logic", 5 PE6 "Core Logic", 38 PE7 "Core Logic", 39 PE8 "Core Logic", 40 PE9 "Core Logic", 41 PE10 "Core Logic", 42 PE11 "Core Logic", 43 PE12 "Core Logic", 44 PE13 "Core Logic", 45 PE14 "Core Logic", 46 PE15 "Core Logic", 97 PE0 "Core Logic", 98 PE1 "Core Logic"
part F pins: 12 PH0 "Core Logic", 13 PH1 "Core Logic", 14 NRST "Core Logic", 49 VCAP_1 "Core Logic", 73 VCAP_2 "Core Logic", 94 BOOT0 "Core Logic"
part G pins: 6 VBAT "Core Logic", 10 VSS "Core Logic", 11 VDD "Core Logic", 19 VDD "Core Logic", 20 VSSA "Core Logic", 21 VREF+ "Core Logic", 22 VDDA "Core Logic", 27 VSS "Core Logic", 28 VDD "Core Logic", 50 VDD "Core Logic", 74 VSS "Core Logic", 75 VDD "Core Logic", 99 VSS "Core Logic", 100 VDD "Core Logic"
part A text: A PORT
part B text: B PORT
part C text: C PORT
part D text: D PORT
part E text: E PORT
part F text: MISC
part G text: POWER

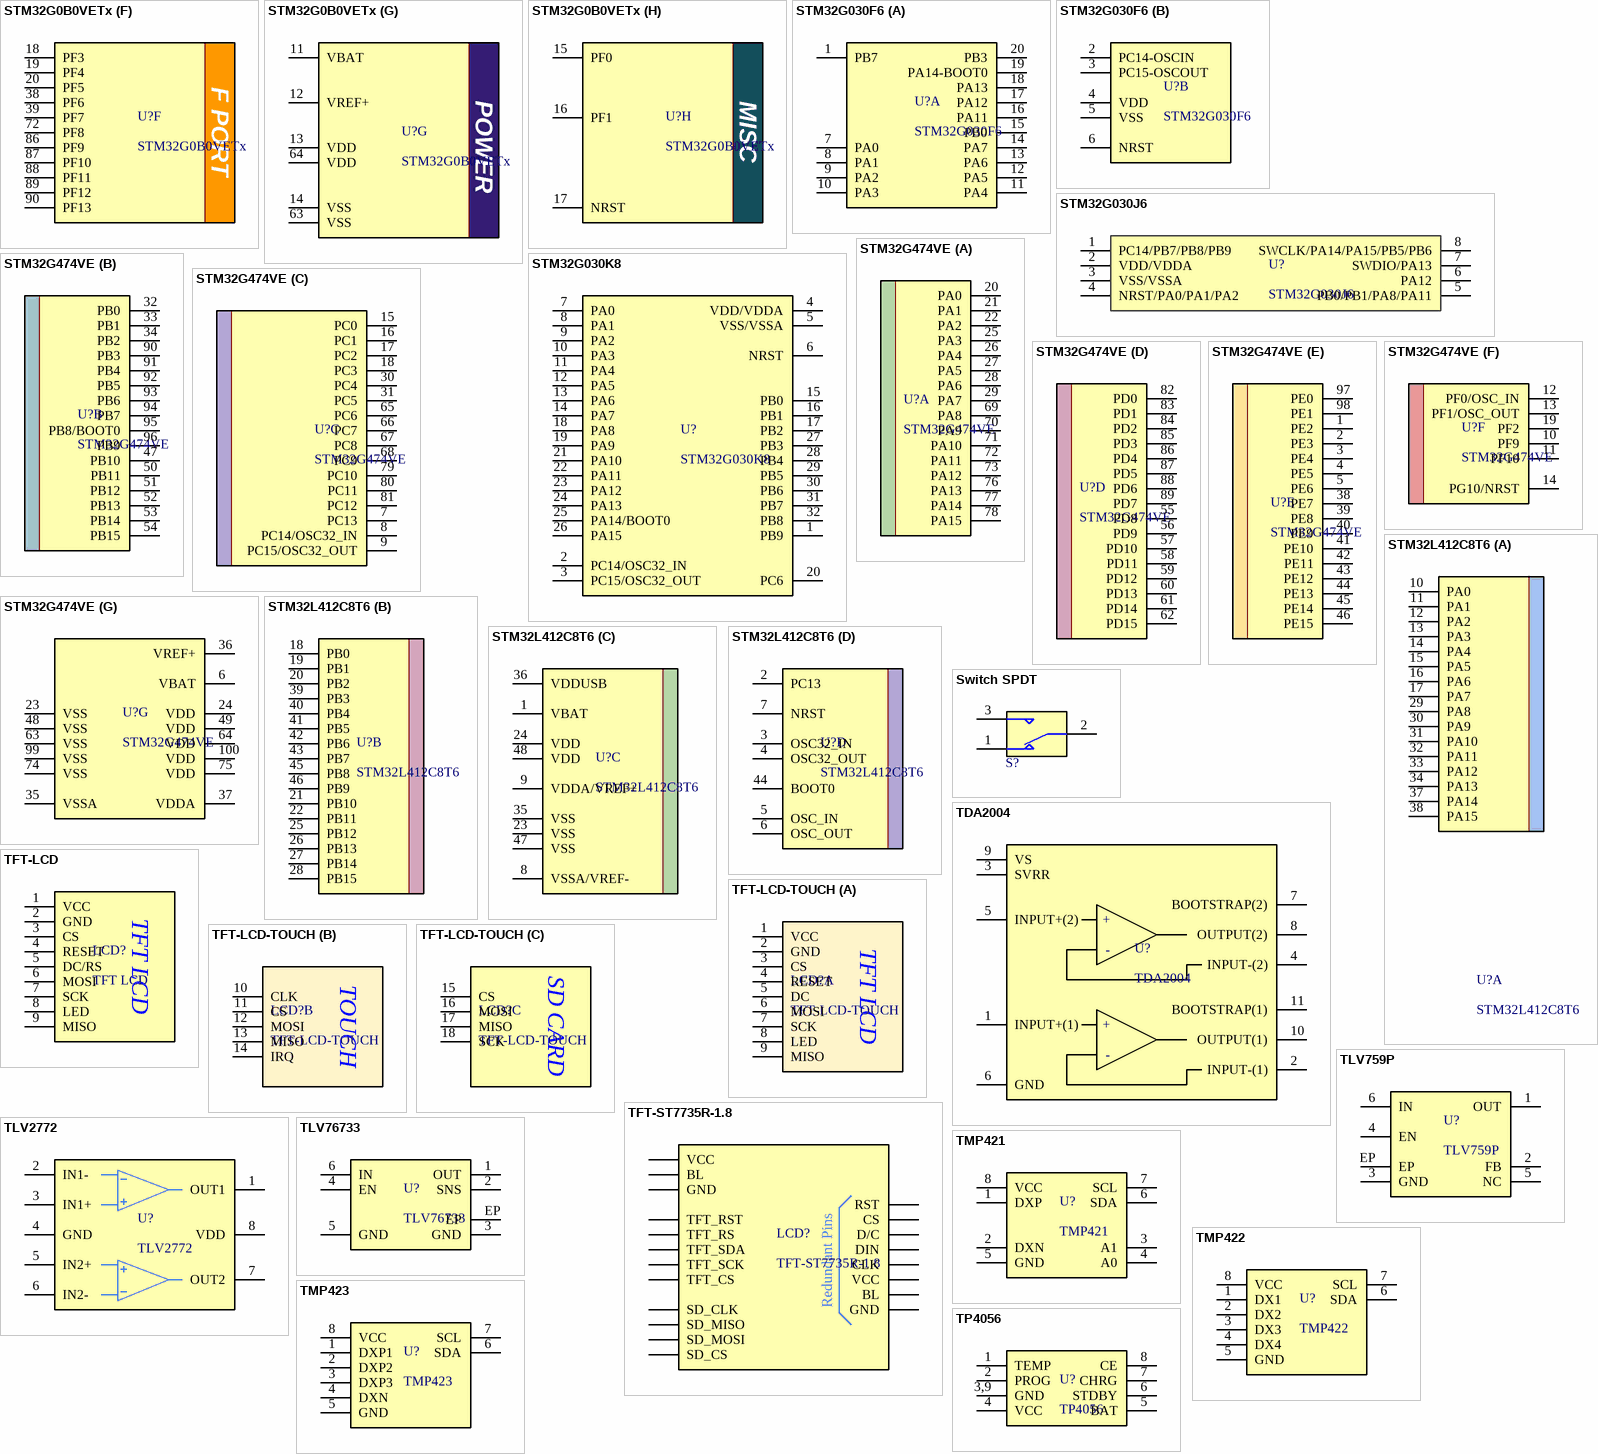
[diagram p11: symbols STM32G0B0VETx to TP4056]

## STM32G0B0VETx
designator U?
Mainstream Value line, Arm Cortex-M0+ 32-bit MCU, up to 512KB Flash, 144KB RAM, 6x USART, timers, ADC, comm. I/Fs, 2-3.6V
footprint LQFP100
part A pins: 25 PA0 "Core Logic", 26 PA1 "Core Logic", 27 PA2 "Core Logic", 28 PA3 "Core Logic", 29 PA4 "Core Logic", 30 PA5 "Core Logic", 31 PA6 "Core Logic", 32 PA7 "Core Logic", 55 PA8 "Core Logic", 56 PA9 "Core Logic", 69 PA10 "Core Logic", 70 PA11 "Core Logic", 71 PA12 "Core Logic", 73 PA13 "Core Logic", 74 PA14 "Core Logic", 75 PA15 "Core Logic"
part B pins: 1 PB9 "Core Logic", 35 PB0 "Core Logic", 36 PB1 "Core Logic", 37 PB2 "Core Logic", 49 PB10 "Core Logic", 50 PB11 "Core Logic", 51 PB12 "Core Logic", 52 PB13 "Core Logic", 53 PB14 "Core Logic", 54 PB15 "Core Logic", 91 PB3 "Core Logic", 92 PB4 "Core Logic", 93 PB5 "Core Logic", 98 PB6 "Core Logic", 99 PB7 "Core Logic", 100 PB8 "Core Logic"
part C pins: 2 PC10 "Core Logic", 3 PC11 "Core Logic", 7 PC12 "Core Logic", 8 PC13 "Core Logic", 9 PC14 "Core Logic", 10 PC15 "Core Logic", 21 PC0 "Core Logic", 22 PC1 "Core Logic", 23 PC2 "Core Logic", 24 PC3 "Core Logic", 33 PC4 "Core Logic", 34 PC5 "Core Logic", 57 PC6 "Core Logic", 58 PC7 "Core Logic", 76 PC8 "Core Logic", 77 PC9 "Core Logic"
part D pins: 59 PD8 "Core Logic", 60 PD9 "Core Logic", 61 PD10 "Core Logic", 62 PD11 "Core Logic", 65 PD12 "Core Logic", 66 PD13 "Core Logic", 67 PD14 "Core Logic", 68 PD15 "Core Logic", 78 PD0 "Core Logic", 79 PD1 "Core Logic", 80 PD2 "Core Logic", 81 PD3 "Core Logic", 82 PD4 "Core Logic", 83 PD5 "Core Logic", 84 PD6 "Core Logic", 85 PD7 "Core Logic"
part E pins: 4 PE4 "Core Logic", 5 PE5 "Core Logic", 6 PE6 "Core Logic", 40 PE7 "Core Logic", 41 PE8 "Core Logic", 42 PE9 "Core Logic", 43 PE10 "Core Logic", 44 PE11 "Core Logic", 45 PE12 "Core Logic", 46 PE13 "Core Logic", 47 PE14 "Core Logic", 48 PE15 "Core Logic", 94 PE0 "Core Logic", 95 PE1 "Core Logic", 96 PE2 "Core Logic", 97 PE3 "Core Logic"
part F pins: 18 PF3 "Core Logic", 19 PF4 "Core Logic", 20 PF5 "Core Logic", 38 PF6 "Core Logic", 39 PF7 "Core Logic", 72 PF8 "Core Logic", 86 PF9 "Core Logic", 87 PF10 "Core Logic", 88 PF11 "Core Logic", 89 PF12 "Core Logic", 90 PF13 "Core Logic"
part G pins: 11 VBAT "Core Logic", 12 VREF+ "Core Logic", 13 VDD "Core Logic", 14 VSS "Core Logic", 63 VSS "Core Logic", 64 VDD "Core Logic"
part H pins: 15 PF0 "Core Logic", 16 PF1 "Core Logic", 17 NRST "Core Logic"
part A text: A PORT
part B text: B PORT
part C text: C PORT
part D text: D PORT
part E text: E PORT
part F text: F PORT
part G text: POWER
part H text: MISC

## STM32G030F6
designator U?
Mainstream Value-Line Arm Cortex-M0+ MCU with 32 Kbytes of Flash memory, 8 Kbytes RAM, 64 MHz CPU, 2x USART, timers, ADC, comm. I/F, 2-3.6V
footprint TSSOP20
part A pins: 1 PB7, 7 PA0, 8 PA1, 9 PA2, 10 PA3, 11 PA4, 12 PA5, 13 PA6, 14 PA7, 15 PB0, 16 PA11, 17 PA12, 18 PA13, 19 PA14-BOOT0, 20 PB3
part B pins: 2 PC14-OSCIN, 3 PC15-OSCOUT, 4 VDD, 5 VSS, 6 NRST

## STM32G030J6
designator U?
Mainstream Value Line Arm Cortex-M0+ MCU with 32 Kbytes of Flash memory, 8 Kbytes RAM, 64 MHz CPU, 2x USART, timers, ADC, comm. I/F, 2-3.6V
footprint SOIC-8
pins: 1 PC14/PB7/PB8/PB9, 2 VDD/VDDA, 3 VSS/VSSA, 4 NRST/PA0/PA1/PA2, 5 PB0/PB1/PA8/PA11, 6 PA12, 7 SWDIO/PA13, 8 SWCLK/PA14/PA15/PB5/PB6

## STM32G030K8
designator U?
Mainstream Value-Line Arm Cortex-M0+ MCU with 64 Kbytes of Flash memory, 8 Kbytes RAM, 64 MHz CPU, 2x USART, timers, ADC, comm. I/F, 2-3.6V
footprint LQFP32
pins: 1 PB9, 2 PC14/OSC32_IN, 3 PC15/OSC32_OUT, 4 VDD/VDDA, 5 VSS/VSSA, 6 NRST, 7 PA0, 8 PA1, 9 PA2, 10 PA3, 11 PA4, 12 PA5, 13 PA6, 14 PA7, 15 PB0, 16 PB1, 17 PB2, 18 PA8, 19 PA9, 20 PC6, 21 PA10, 22 PA11, 23 PA12, 24 PA13, 25 PA14/BOOT0, 26 PA15, 27 PB3, 28 PB4, 29 PB5, 30 PB6, 31 PB7, 32 PB8

## STM32G474VE
designator U?
Mainstream Arm Cortex-M4 MCU 170 MHz with 512 Kbytes of Flash memory, Math Accelerator, HR Timer, High Analog level integration
footprint LQFP100
part A pins: 20 PA0, 21 PA1, 22 PA2, 25 PA3, 26 PA4, 27 PA5, 28 PA6, 29 PA7, 69 PA8, 70 PA9, 71 PA10, 72 PA11, 73 PA12, 76 PA13, 77 PA14, 78 PA15
part B pins: 32 PB0, 33 PB1, 34 PB2, 47 PB10, 50 PB11, 51 PB12, 52 PB13, 53 PB14, 54 PB15, 90 PB3, 91 PB4, 92 PB5, 93 PB6, 94 PB7, 95 PB8/BOOT0, 96 PB9
part C pins: 7 PC13, 8 PC14/OSC32_IN, 9 PC15/OSC32_OUT, 15 PC0, 16 PC1, 17 PC2, 18 PC3, 30 PC4, 31 PC5, 65 PC6, 66 PC7, 67 PC8, 68 PC9, 79 PC10, 80 PC11, 81 PC12
part D pins: 55 PD8, 56 PD9, 57 PD10, 58 PD11, 59 PD12, 60 PD13, 61 PD14, 62 PD15, 82 PD0, 83 PD1, 84 PD2, 85 PD3, 86 PD4, 87 PD5, 88 PD6, 89 PD7
part E pins: 1 PE2, 2 PE3, 3 PE4, 4 PE5, 5 PE6, 38 PE7, 39 PE8, 40 PE9, 41 PE10, 42 PE11, 43 PE12, 44 PE13, 45 PE14, 46 PE15, 97 PE0, 98 PE1
part F pins: 10 PF9, 11 PF10, 12 PF0/OSC_IN, 13 PF1/OSC_OUT, 14 PG10/NRST, 19 PF2
part G pins: 6 VBAT, 23 VSS, 24 VDD, 35 VSSA, 36 VREF+, 37 VDDA, 48 VSS, 49 VDD, 63 VSS, 64 VDD, 74 VSS, 75 VDD, 99 VSS, 100 VDD

## STM32L412C8T6
designator U?
Ultra-low-power with FPU Arm Cortex-M4 MCU 80 MHz with 64 Kbytes of Flash memory
footprint LQFP48
part A pins: 10 PA0, 11 PA1, 12 PA2, 13 PA3, 14 PA4, 15 PA5, 16 PA6, 17 PA7, 29 PA8, 30 PA9, 31 PA10, 32 PA11, 33 PA12, 34 PA13, 37 PA14, 38 PA15
part B pins: 18 PB0, 19 PB1, 20 PB2, 21 PB10, 22 PB11, 25 PB12, 26 PB13, 27 PB14, 28 PB15, 39 PB3, 40 PB4, 41 PB5, 42 PB6, 43 PB7, 45 PB8, 46 PB9
part C pins: 1 VBAT, 8 VSSA/VREF-, 9 VDDA/VREF+, 23 VSS, 24 VDD, 35 VSS, 36 VDDUSB, 47 VSS, 48 VDD
part D pins: 2 PC13, 3 OSC32_IN, 4 OSC32_OUT, 5 OSC_IN, 6 OSC_OUT, 7 NRST, 44 BOOT0

## Switch SPDT
designator S?  (value not drawn)
SPDT Switch; Company: E.P.I.L; Design date: 2011/11/02
footprint SPDT Subminiator (Subminiator SPDT switch)
footprint SS-12F23 (SPDT onboard slide switch)
footprint kolangi-3pin
pins: 1, 2, 3

## TDA2004
designator U?
10 + 10W Stereo Amplifier
footprint TDA2004
pins: 1 INPUT+(1), 2 INPUT-(1), 3 SVRR, 4 INPUT-(2), 5 INPUT+(2), 6 GND (power), 7 BOOTSTRAP(2), 8 OUTPUT(2), 9 VS, 10 OUTPUT(1), 11 BOOTSTRAP(1)
text: +; -

## TFT-LCD
designator LCD?, comment TFT LCD
footprint TFT-2.2-2screws
footprint TFT-2.2-4screws
pins: 1 VCC, 2 GND, 3 CS, 4 RESET, 5 DC/RS, 6 MOSI, 7 SCK, 8 LED, 9 MISO

## TFT-LCD-TOUCH
designator LCD?
footprint TFT-2.8-NO-SCREWS
part A pins: 1 VCC, 2 GND, 3 CS, 4 RESET, 5 DC, 6 MOSI, 7 SCK, 8 LED, 9 MISO
part B pins: 10 CLK, 11 CS, 12 MOSI, 13 MISO, 14 IRQ
part C pins: 15 CS, 16 MOSI, 17 MISO, 18 SCK
part A text: TFT LCD
part B text: TOUCH
part C text: SD CARD

## TFT-ST7735R-1.8
designator LCD?
footprint TFT-ST7735R-1.8
pins: 1 GND, 2 VCC, 4 BL, 6 TFT_RST, 7 TFT_RS, 8 TFT_SDA, 9 TFT_SCK, 10 TFT_CS, 11 SD_CLK, 12 SD_MISO, 13 SD_MOSI, 14 SD_CS, 17 GND, 18 BL, 19 VCC, 20 CLK, 21 DIN, 22 D/C, 23 CS, 24 RST
text: Redundant Pins

## TLV759P
designator U?
1-A High Accuracy Adjustable LDO
footprint WSON-6
pins: 1 OUT "Core Logic", 2 FB "Core Logic", 3 GND "Core Logic", 4 EN "Core Logic", 5 NC "Core Logic", 6 IN "Core Logic", EP "Core Logic"

## TLV2772
designator U?
High slew-rate rail-to-rail OpAmp
footprint SOIC-8
footprint TSSOP-8
pins: 1 OUT1, 2 IN1-, 3 IN1+, 4 GND, 5 IN2+, 6 IN2-, 7 OUT2, 8 VDD

## TLV76733
designator U?
1-A, 16-V Precision Linear Voltage Regulator
footprint WSON-6
pins: 1 OUT "Core Logic", 2 SNS "Core Logic", 3 GND "Core Logic", 4 EN "Core Logic", 5 GND "Core Logic", 6 IN "Core Logic", EP "Core Logic"

## TMP421
designator U?
Board Mount Temperature Sensors +/-1degC Remote & Local Temp Sensor
footprint DSGA-8
footprint SOT23-8L
pins: 1 DXP, 2 DXN, 3 A1, 4 A0, 5 GND, 6 SDA, 7 SCL, 8 VCC

## TMP422
designator U?
Board Mount Temperature Sensors +/-1degC Remote & Local Temp Sensor
footprint SOT23-8L
pins: 1 DX1, 2 DX2, 3 DX3, 4 DX4, 5 GND, 6 SDA, 7 SCL, 8 VCC

## TMP423
designator U?
Board Mount Temperature Sensors +/-1degC Remote & Local Temp Sensor
footprint SOT23-8L
pins: 1 DXP1, 2 DXP2, 3 DXP3, 4 DXN, 5 GND, 6 SDA, 7 SCL, 8 VCC

## TP4056
designator U?
Lithium Battery 1 1A ESOP-8 Battery Management
footprint SOIC-8-E
pins: 1 TEMP, 2 PROG, 3,9 GND, 4 VCC, 5 BAT, 6 STDBY "Active low", 7 CHRG, 8 CE

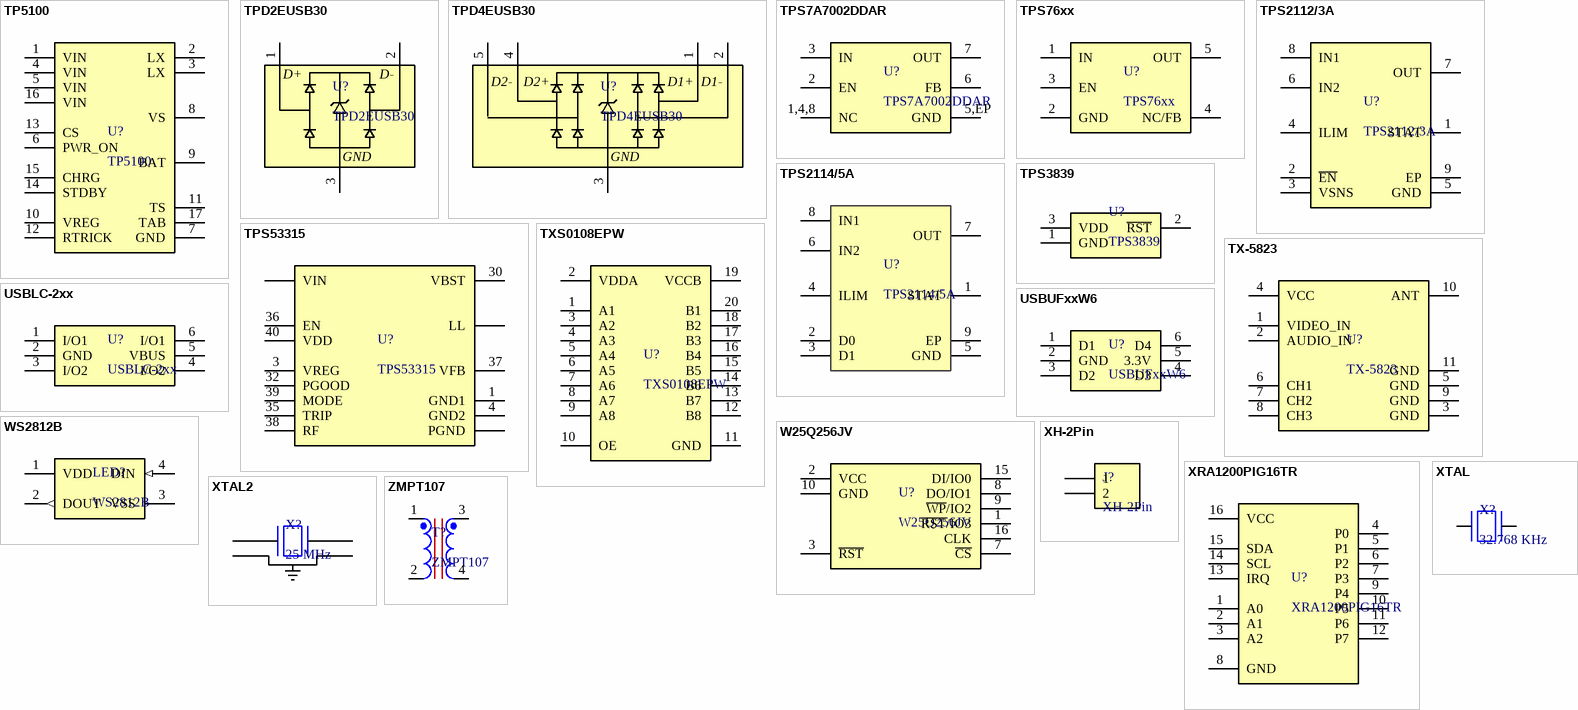
[diagram p12: symbols TP5100 to ZMPT107]

## TP5100
designator U?
2A switching buck battery charger chip
footprint QFN-16T-4X4 (QFN, 16, 4X4mm, 0.5mm)
pins: 1 VIN, 2 LX, 3 LX, 4 VIN, 5 VIN, 6 PWR_ON, 7 GND, 8 VS, 9 BAT, 10 VREG, 11 TS, 12 RTRICK, 13 CS, 14 STDBY, 15 CHRG, 16 VIN, 17 TAB

## TPD2EUSB30
designator U?
2-Channel ESD Protection for Super-Speed USB 3.0
footprint SOT23
pins: 1 D+, 2 D-, 3 GND

## TPD4EUSB30
designator U?
4-Channel ESD Protection for Super-Speed USB 3.0
footprint DQA-10
pins: 1 D+, 2 D-, 3 GND, 4, 5
text: D2-; D2+; D1+; D1-

## TPS7A7002DDAR
designator U?
Very Low Input, Very Low Dropout 3-A Regulator With Enable
footprint SO-8EP; pin to pad 5,EP>5+9
pins: 1,4,8 NC, 2 EN, 3 IN, 5,EP GND, 6 FB, 7 OUT

## TPS76xx
designator U?
Fast-Transient-Response 1-A Low-Dropout Linear Regulators
footprint SOT23-5L
pins: 1 IN, 2 GND, 3 EN, 4 NC/FB, 5 OUT

## TPS2112/3A
designator U?
2.8-V to 5.5-V, power mux with automatic, slow switchover and status output
footprint TSSOP-8; pin to pad 9>5
footprint VSON-8pin
pins: 1 STAT "Core Logic", 2 ~{EN} "Core Logic", 3 VSNS "Core Logic", 4 ILIM "Core Logic", 5 GND "Core Logic", 6 IN2 "Core Logic", 7 OUT "Core Logic", 8 IN1 "Core Logic", 9 EP "Core Logic"

## TPS2114/5A
designator U?
2.8-V to 5.5-V, 1.25-A, power mux with manual, automatic switchover and status output
footprint TSSOP-8; pin to pad 9>5
footprint VSON-8pin
pins: 1 STAT "Core Logic", 2 D0 "Core Logic", 3 D1 "Core Logic", 4 ILIM "Core Logic", 5 GND "Core Logic", 6 IN2 "Core Logic", 7 OUT "Core Logic", 8 IN1 "Core Logic", 9 EP "Core Logic"

## TPS3839
designator U?
Ultra-low power, supply voltage supervisor
footprint SOT23
pins: 1 GND, 2 ~{RST}, 3 VDD

## TPS53315
designator U?
3-V to 15-V, 12-A synchronous buck converter with optimized light load efficiency
footprint VQFN-40
pins: 1 GND1, 2,5,6,7,8,9,10,EP PGND, 3 VREG, 4 GND2, 11,12,13,14,15 VIN, 16,17,18,19,20,21,22,23,24,25,26,27,28 LL, 30 VBST, 32 PGOOD, 35 TRIP, 36 EN, 37 VFB, 38 RF, 39 MODE, 40 VDD

## TX-5823
designator U?
200mw 8CH 5.8G tx module
footprint TX-5823
pins: 1 VIDEO_IN, 2 AUDIO_IN, 3 GND, 4 VCC, 5 GND, 6 CH1, 7 CH2, 8 CH3, 9 GND, 10 ANT, 11 GND

## TXS0108EPW
designator U?
8Bit Bi-directional, Level-Shifting, Voltage Translator
footprint TSSOP20
pins: 1 A1, 2 VDDA, 3 A2, 4 A3, 5 A4, 6 A5, 7 A6, 8 A7, 9 A8, 10 OE, 11 GND, 12 B8, 13 B7, 14 B6, 15 B5, 16 B4, 17 B3, 18 B2, 19 VCCB, 20 B1

## USBLC-2xx
designator U?
ESD Protection Diodes / TVS Diodes ESD Protection Low Cap / USB (LS, FS, HS), Ethernet (10/100 Mbps), and SIM Card
footprint SOT23-6L
pins: 1 I/O1, 2 GND, 3 I/O2, 4 I/O2, 5 VBUS, 6 I/O1

## USBUFxxW6
designator U?
USBUF02W6
footprint SOT23-6L
pins: 1 D1, 2 GND, 3 D2, 4 D3, 5 3.3V, 6 D4

## W25Q256JV
designator U?
3V 256Mb Serial Flash Memory with Dual/Quad SPI
footprint SO16-Wide (SOP, SOIC, 7.5mm width, 1.27mm pitch,)
pins: 1 ~{RST}/IO3, 2 VCC, 3 ~{RST}, 7 ~{CS}, 8 DO/IO1, 9 ~{WP}/IO2, 10 GND, 15 DI/IO0, 16 CLK

## WS2812B
designator LED?
Multi-Color LEDs
footprint WS2812B
pins: 1 VDD (oe), 2 DOUT (out), 3 VSS (oe), 4 DIN (in)

## XH-2Pin
designator J?
footprint XH-2PIN
pins: 1, 2

## XRA1200PIG16TR
designator U?
Interface - I/O Expanders 8 Bit I2C SMBus GPIO Expander
footprint TSSOP-16
pins: 1 A0, 2 A1, 3 A2, 4 P0, 5 P1, 6 P2, 7 P3, 8 GND, 9 P4, 10 P5, 11 P6, 12 P7, 13 IRQ, 14 SCL, 15 SDA, 16 VCC

## XTAL
designator X?, comment 32.768 KHz
Frequency: 32.768 KHz
footprint 32.768 - Right
footprint 32.768 - Stand
footprint ABRACON-ABM11A
pins: 1, 2

## XTAL2
designator X?, comment 25 MHz
Frequency: 25 MHz
footprint CRYSTAL-3.2x2.5x0.8
pins: 1, 2, 3, 4

## ZMPT107
designator T?
2mA Voltage Transformer 1:1 2mA Through Hole Current Transformers RoHS
footprint ZMPT107
pins: 1, 2, 3, 4